# Altium footprint library VHIEU_MCU.PcbLib: 2 footprints
Each footprint in its own frame and in the unit in brackets; x right, y up, seen from the top. Pads: shape width x height; smd on the part's side, far side on the other; paste and mask are expansions set on the pad; w line width, h text height; cw(c..) or ccw(c..) is an arc to the next point about the centre after c.
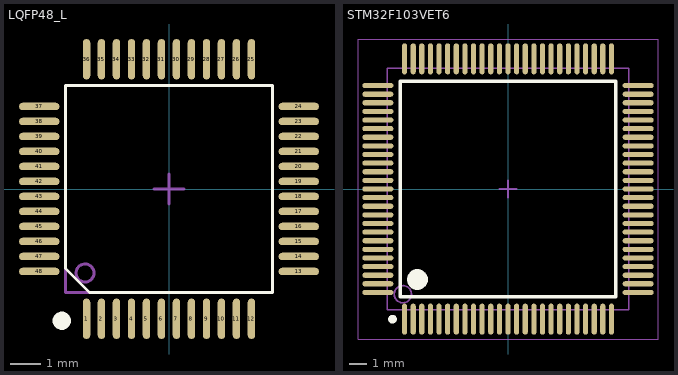
[diagram p0: the footprints below, top view; thin cyan lines are the x and y axes]

## LQFP48_L [mm] "Thin QFP, 48-Leads, Body 7x7mm, Pitch 0.5mm, IPC High Density-stm32f103c8t6"
height 1.6
pads (48):
  oval 0.25x1.35 smd: 1(-2.75,-4.325) 2(-2.25,-4.325) 3(-1.75,-4.325) 4(-1.25,-4.325) 5(-0.75,-4.325) 6(-0.25,-4.325) 7(0.25,-4.325) 8(0.75,-4.325) 9(1.25,-4.325) 10(1.75,-4.325) 11(2.25,-4.325) 12(2.75,-4.325) 25(2.75,4.325) 26(2.25,4.325) 27(1.75,4.325) 28(1.25,4.325) 29(0.75,4.325) 30(0.25,4.325) 31(-0.25,4.325) 32(-0.75,4.325) 33(-1.25,4.325) 34(-1.75,4.325) 35(-2.25,4.325) 36(-2.75,4.325)
  oval 1.35x0.25 smd: 13(4.325,-2.75) 14(4.325,-2.25) 15(4.325,-1.75) 16(4.325,-1.25) 17(4.325,-0.75) 18(4.325,-0.25) 19(4.325,0.25) 20(4.325,0.75) 21(4.325,1.25) 22(4.325,1.75) 23(4.325,2.25) 24(4.325,2.75) 37(-4.325,2.75) 38(-4.325,2.25) 39(-4.325,1.75) 40(-4.325,1.25) 41(-4.325,0.75) 42(-4.325,0.25) 43(-4.325,-0.25) 44(-4.325,-0.75) 45(-4.325,-1.25) 46(-4.325,-1.75) 47(-4.325,-2.25) 48(-4.325,-2.75)
Top Overlay:
  region: -3.273,-4.39 -3.273,-4.449 -3.319,-4.56 -3.403,-4.644 -3.513,-4.69 -3.573,-4.69 -3.633,-4.69 -3.743,-4.644 -3.827,-4.56 -3.873,-4.449 -3.873,-4.39 -3.873,-4.33 -3.827,-4.22 -3.743,-4.135 -3.633,-4.09 -3.573,-4.09 -3.513,-4.09 -3.403,-4.135 -3.319,-4.22 -3.273,-4.33
  lines w0.1: -3.45,-2.65 -2.65,-3.45 3.45,-3.45 3.45,3.45 -3.45,3.45 -3.45,-2.65
Mechanical 1:
  text ".Designator" at 0.254,0.762 h1.52
Mechanical 13:
  circle w0.1: c-2.8,-2.8 r0.3
  lines w0.1: -3.45,-3.45 3.45,-3.45 3.45,3.45 -3.45,3.45 -3.45,-3.45
Mechanical 15:
  lines w0.1: -0.5,0 0.5,0 ; 0,-0.5 0,0.5
3D body "User Library-STM32F103C8T6.STEP": height 1.55, standoff 0, extent -4.5,-4.5 4.5,4.5

## STM32F103VET6 [mm] "100PIN"
pads (100):
  oval 0.3x1.8 smd: 1(-6,-7.55) 2(-5.5,-7.55) 3(-5,-7.55) 4(-4.5,-7.55) 5(-4,-7.55) 6(-3.5,-7.55) 7(-3,-7.55) 8(-2.5,-7.55) 9(-2,-7.55) 10(-1.5,-7.55) 11(-1,-7.55) 12(-0.5,-7.55) 13(0,-7.55) 14(0.5,-7.55) 15(1,-7.55) 16(1.5,-7.55) 17(2,-7.55) 18(2.5,-7.55) 19(3,-7.55) 20(3.5,-7.55) 21(4,-7.55) 22(4.5,-7.55) 23(5,-7.55) 24(5.5,-7.55) 25(6,-7.55) 51(6,7.55) 52(5.5,7.55) 53(5,7.55) 54(4.5,7.55) 55(4,7.55) 56(3.5,7.55) 57(3,7.55) 58(2.5,7.55) 59(2,7.55) 60(1.5,7.55) 61(1,7.55) 62(0.5,7.55) 63(0,7.55) 64(-0.5,7.55) 65(-1,7.55) 66(-1.5,7.55) 67(-2,7.55) 68(-2.5,7.55) 69(-3,7.55) 70(-3.5,7.55) 71(-4,7.55) 72(-4.5,7.55) 73(-5,7.55) 74(-5.5,7.55) 75(-6,7.55)
  oval 1.8x0.3 smd: 26(7.55,-6) 27(7.55,-5.5) 28(7.55,-5) 29(7.55,-4.5) 30(7.55,-4) 31(7.55,-3.5) 32(7.55,-3) 33(7.55,-2.5) 34(7.55,-2) 35(7.55,-1.5) 36(7.55,-1) 37(7.55,-0.5) 38(7.55,0) 39(7.55,0.5) 40(7.55,1) 41(7.55,1.5) 42(7.55,2) 43(7.55,2.5) 44(7.55,3) 45(7.55,3.5) 46(7.55,4) 47(7.55,4.5) 48(7.55,5) 49(7.55,5.5) 50(7.55,6) 76(-7.55,6) 77(-7.55,5.5) 78(-7.55,5) 79(-7.55,4.5) 80(-7.55,4) 81(-7.55,3.5) 82(-7.55,3) 83(-7.55,2.5) 84(-7.55,2) 85(-7.55,1.5) 86(-7.55,1) 87(-7.55,0.5) 88(-7.55,0) 89(-7.55,-0.5) 90(-7.55,-1) 91(-7.55,-1.5) 92(-7.55,-2) 93(-7.55,-2.5) 94(-7.55,-3) 95(-7.55,-3.5) 96(-7.55,-4) 97(-7.55,-4.5) 98(-7.55,-5) 99(-7.55,-5.5) 100(-7.55,-6)
Top Overlay:
  circle w0.25: c-6.7,-7.55 r0.125
  circle w0.6: c-5.25,-5.25 r0.3
  lines w0.2: -6.25,-6.25 6.25,-6.25 6.25,6.25 -6.25,6.25 -6.25,-6.25
Mechanical 1:
  text "'.Designator'" at 0.254,0.762 h1.52
Mechanical 13:
  circle w0.1: c-6.1,-6.1 r0.5
  lines w0.1: -7,-7 7,-7 7,7 -7,7 -7,-7
Mechanical 15:
  lines w0.05: -8.7,-8.7 8.7,-8.7 8.7,8.7 -8.7,8.7 -8.7,-8.7
  lines w0.1: -0.5,0 0.5,0 ; 0,-0.5 0,0.5
3D body "STM32F103VET6-v1.step": height 1.45, standoff -0.08, extent -8,-8 8,8